# Altium integrated library ST Audio Processor.IntLib: 35 symbols
Pins are listed as number, name and electrical type; pins without a type are passive.

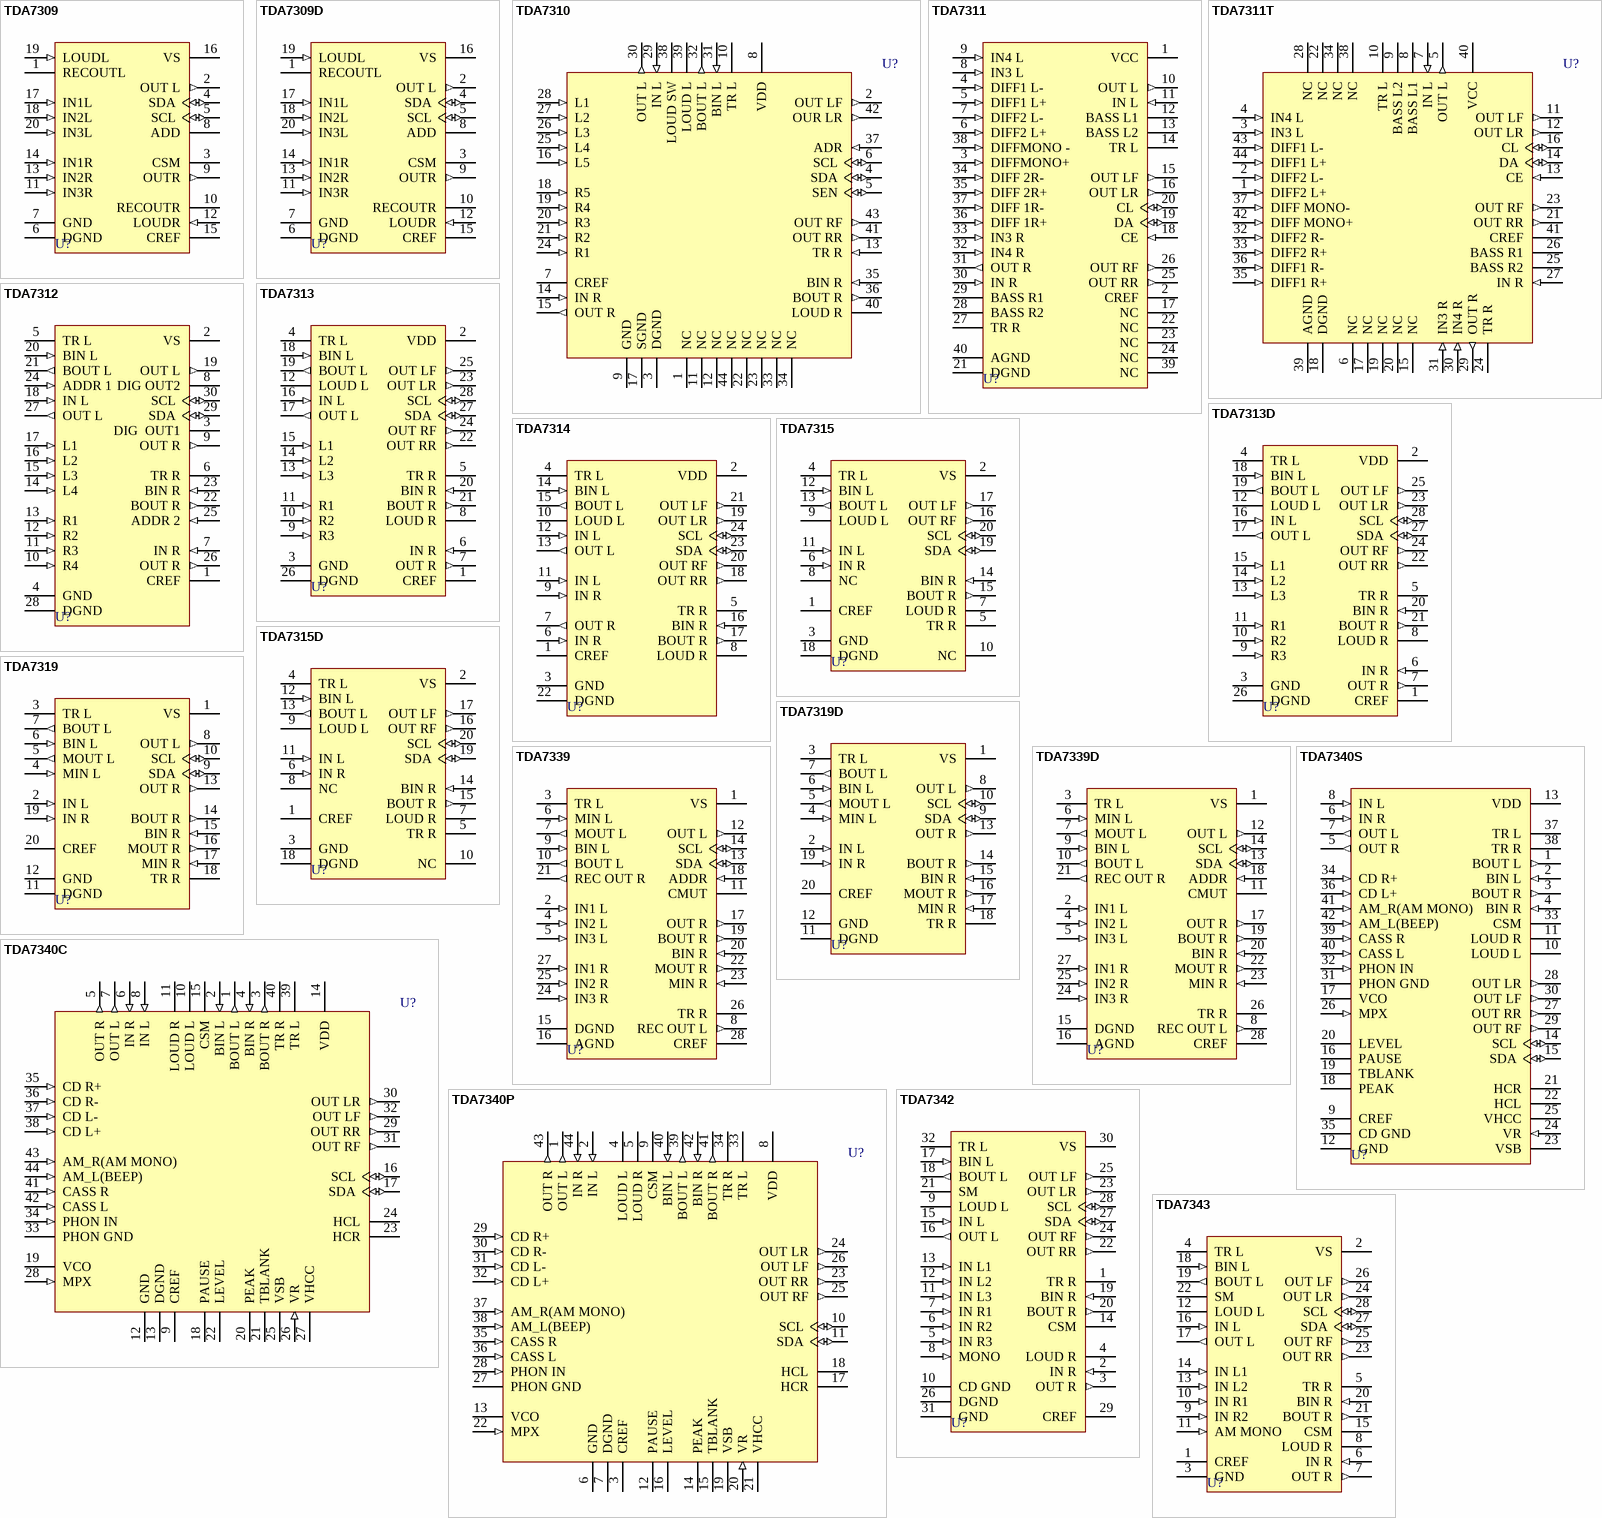
[diagram p0: symbols TDA7309 to TDA7343]

## TDA7309
designator U?
Digital-Controlled Stereo Audio Processor with Loudness; Published: 24-Aug-2001; LatestRevisionDate: 17-Jul-2002; LatestRevisionNote: Re-released for DXP Platform.; DatasheetDocument: Sep-1997; PackageDocument: Jun-1998; PackageReference: DIP20; Publisher: Altium Limited; Code_JEDEC: MS-015-AE
footprint DIP20 (DIP; 20 Leads; Row Spacing 7.62 mm; Pitch 2.54 mm)
pins: 1 RECOUTL, 2 OUT L (out), 3 CSM, 4 SDA (io), 5 SCL (io), 6 DGND (power), 7 GND (power), 8 ADD, 9 OUTR (out), 10 RECOUTR, 11 IN3R (in), 12 LOUDR (in), 13 IN2R (in), 14 IN1R (in), 15 CREF, 16 VS (power), 17 IN1L (in), 18 IN2L (in), 19 LOUDL (in), 20 IN3L (in)

## TDA7309D
designator U?
Digital-Controlled Stereo Audio Processor with Loudness; Published: 24-Aug-2001; LatestRevisionDate: 17-Jul-2002; LatestRevisionNote: Re-released for DXP Platform.; DatasheetDocument: Sep-1997; PackageDocument: Jul-2001; PackageReference: SO20; Publisher: Altium Limited; Code_JEDEC: MS-013-AC; Code_IPC: SO20W
footprint SO20 (Small Outline, Plastic; 20 Leads; Body Width 7.5 mm; Pitch 1.27 mm)
pins: 1 RECOUTL, 2 OUT L (out), 3 CSM, 4 SDA (io), 5 SCL (io), 6 DGND (power), 7 GND (power), 8 ADD, 9 OUTR (out), 10 RECOUTR, 11 IN3R (in), 12 LOUDR (in), 13 IN2R (in), 14 IN1R (in), 15 CREF, 16 VS (power), 17 IN1L (in), 18 IN2L (in), 19 LOUDL (in), 20 IN3L (in)

## TDA7310
designator U?
Serial Bus-Controlled Audio Processor; Published: 24-Aug-2001; LatestRevisionDate: 17-Jul-2002; LatestRevisionNote: Re-released for DXP Platform.; DatasheetDocument: Nov-1999; PackageDocument: Nov-1999; PackageReference: PQFP44A; Publisher: Altium Limited; Code_JEDEC: MS-022-AB; Code_IPC: QFP10X10-44
footprint PQFP44A (QFP; 44 Leads; Body 10 x 10 mm; Pitch 0.8 mm)
pins: 1 NC, 2 OUT LF (out), 3 DGND (power), 4 SDA (io), 5 SEN (io), 6 SCL (io), 7 CREF, 8 VDD (power), 9 GND (power), 10 TR L, 11 NC, 12 NC, 13 TR R (in), 14 IN R (in), 15 OUT R (out), 16 L5 (in), 17 SGND (power), 18 R5 (in), 19 R4 (in), 20 R3 (in), 21 R2 (in), 22 NC, 23 NC, 24 R1 (in), 25 L4 (in), 26 L3 (in), 27 L2 (in), 28 L1 (in), 29 IN L (in), 30 OUT L (out), 31 BIN L (in), 32 BOUT L (out), 33 NC, 34 NC, 35 BIN R (in), 36 BOUT R (out), 37 ADR (in), 38 LOUD SW, 39 LOUD L, 40 LOUD R, 41 OUT RR (out), 42 OUR LR (out), 43 OUT RF (out), 44 NC

## TDA7311
designator U?
Serial Bus-Controlled Audio Processor; Published: 24-Aug-2001; LatestRevisionDate: 17-Jul-2002; LatestRevisionNote: Re-released for DXP Platform.; DatasheetDocument: Jul-1999; PackageDocument: Jul-1999; PackageReference: PDIP40B; Publisher: Altium Limited
footprint PDIP40B (DIP; 40 Leads; Row Spacing 15.24 mm; Pitch 2.54 mm)
pins: 1 VCC (power), 2 CREF, 3 DIFFMONO+ (in), 4 DIFF1 L- (in), 5 DIFF1 L+ (in), 6 DIFF2 L+ (in), 7 DIFF2 L- (in), 8 IN3 L (in), 9 IN4 L (in), 10 OUT L (out), 11 IN L (in), 12 BASS L1, 13 BASS L2, 14 TR L, 15 OUT LF (out), 16 OUT LR (out), 17 NC, 18 CE (in), 19 DA (io), 20 CL (io), 21 DGND (power), 22 NC, 23 NC, 24 NC, 25 OUT RR (out), 26 OUT RF (out), 27 TR R, 28 BASS R2, 29 BASS R1, 30 IN R (in), 31 OUT R (out), 32 IN4 R (in), 33 IN3 R (in), 34 DIFF 2R- (in), 35 DIFF 2R+ (in), 36 DIFF 1R+ (in), 37 DIFF 1R- (in), 38 DIFFMONO - (in), 39 NC, 40 AGND (power)

## TDA7311T
designator U?
Serial Bus-Controlled Audio Processor; Published: 24-Aug-2001; LatestRevisionDate: 17-Jul-2002; LatestRevisionNote: Re-released for DXP Platform.; DatasheetDocument: Apr-1997; PackageDocument: Oct-1997; PackageReference: TQFP44-10X10; Publisher: Altium Limited
footprint TQFP44-10X10 (QFP; 44 Leads; Body 10 x 10 mm; Pitch 0.8 mm)
pins: 1 DIFF2 L+ (in), 2 DIFF2 L- (in), 3 IN3 L (in), 4 IN4 L (in), 5 OUT L (out), 6 NC, 7 IN L (in), 8 BASS L1, 9 BASS L2, 10 TR L, 11 OUT LF (out), 12 OUT LR (out), 13 CE (in), 14 DA (io), 15 NC, 16 CL (io), 17 NC, 18 DGND (power), 19 NC, 20 NC, 21 OUT RR (out), 22 NC, 23 OUT RF (out), 24 TR R, 25 BASS R2, 26 BASS R1, 27 IN R (in), 28 NC, 29 OUT R (out), 30 IN4 R (in), 31 IN3 R (in), 32 DIFF2 R- (in), 33 DIFF2 R+ (in), 34 NC, 35 DIFF1 R+ (in), 36 DIFF1 R- (in), 37 DIFF MONO- (in), 38 NC, 39 AGND (power), 40 VCC (power), 41 CREF, 42 DIFF MONO+ (in), 43 DIFF1 L- (in), 44 DIFF1 L+ (in)

## TDA7312
designator U?
Digital-Controlled Stereo Audio Processor; Published: 24-Aug-2001; LatestRevisionDate: 17-Jul-2002; LatestRevisionNote: Re-released for DXP Platform.; DatasheetDocument: Nov-1999; PackageDocument: Nov-1999; PackageReference: SDIP30; Publisher: Altium Limited
footprint SDIP30 (DIP; 30 Leads; Row Spacing 10.16 mm; Pitch 1.778 mm)
pins: 1 CREF, 2 VS (power), 3 DIG  OUT1 (hiz), 4 GND (power), 5 TR L, 6 TR R, 7 IN R (in), 8 DIG OUT2 (hiz), 9 OUT R (out), 10 R4 (in), 11 R3 (in), 12 R2 (in), 13 R1 (in), 14 L4 (in), 15 L3 (in), 16 L2 (in), 17 L1 (in), 18 IN L (in), 19 OUT L (out), 20 BIN L (in), 21 BOUT L (out), 22 BOUT R (out), 23 BIN R (in), 24 ADDR 1 (in), 25 ADDR 2 (in), 26 OUT R (out), 27 OUT L (out), 28 DGND (power), 29 SDA (io), 30 SCL (io)

## TDA7313
designator U?
Digital-Controlled Stereo Audio Processor with Loudness; Published: 24-Aug-2001; LatestRevisionDate: 17-Jul-2002; LatestRevisionNote: Re-released for DXP Platform.; DatasheetDocument: Nov-1999; PackageDocument: Jan-2003; PackageReference: PDIP28; Publisher: Altium Limited
footprint PDIP28 (DIP; 28 Leads; Row Spacing 15.24 mm; Pitch 2.54 mm)
pins: 1 CREF, 2 VDD (power), 3 GND (power), 4 TR L, 5 TR R, 6 IN R (in), 7 OUT R (out), 8 LOUD R, 9 R3 (in), 10 R2 (in), 11 R1 (in), 12 LOUD L, 13 L3 (in), 14 L2 (in), 15 L1 (in), 16 IN L (in), 17 OUT L (out), 18 BIN L (in), 19 BOUT L (out), 20 BIN R (in), 21 BOUT R (out), 22 OUT RR (out), 23 OUT LR (out), 24 OUT RF (out), 25 OUT LF (out), 26 DGND (power), 27 SDA (io), 28 SCL (io)

## TDA7313D
designator U?
Digital-Controlled Stereo Audio Processor with Loudness; Published: 24-Aug-2001; LatestRevisionDate: 17-Jul-2002; LatestRevisionNote: Re-released for DXP Platform.; DatasheetDocument: Nov-1999; PackageDocument: Jul-2001; PackageReference: SO28; Publisher: Altium Limited; Code_IPC: SO28W
footprint SO28 (Small Outline, Plastic; 28 Leads; Body Width 7.5 mm; Pitch 1.27 mm)
pins: 1 CREF, 2 VDD (power), 3 GND (power), 4 TR L, 5 TR R, 6 IN R (in), 7 OUT R (out), 8 LOUD R, 9 R3 (in), 10 R2 (in), 11 R1 (in), 12 LOUD L, 13 L3 (in), 14 L2 (in), 15 L1 (in), 16 IN L (in), 17 OUT L (out), 18 BIN L (in), 19 BOUT L (out), 20 BIN R (in), 21 BOUT R (out), 22 OUT RR (out), 23 OUT LR (out), 24 OUT RF (out), 25 OUT LF (out), 26 DGND (power), 27 SDA (io), 28 SCL (io)

## TDA7314
designator U?
Digital-Controlled Audio Processor with Loudness; Published: 24-Aug-2001; LatestRevisionDate: 17-Jul-2002; LatestRevisionNote: Re-released for DXP Platform.; DatasheetDocument: Nov-1999; PackageDocument: Nov-1999; PackageReference: PSDIP24; Publisher: Altium Limited
footprint PSDIP24 (DIP; 24 Leads; Row Spacing 7.62 mm; Pitch 1.778 mm)
pins: 1 CREF, 2 VDD (power), 3 GND (power), 4 TR L, 5 TR R, 6 IN R (in), 7 OUT R (out), 8 LOUD R, 9 IN R (in), 10 LOUD L, 11 IN L (in), 12 IN L (in), 13 OUT L (out), 14 BIN L (in), 15 BOUT L (out), 16 BIN R (in), 17 BOUT R (out), 18 OUT RR (out), 19 OUT LR (out), 20 OUT RF (out), 21 OUT LF (out), 22 DGND (power), 23 SDA (io), 24 SCL (io)

## TDA7315
designator U?
Digital-Controlled Audio Processor; Published: 24-Aug-2001; LatestRevisionDate: 17-Jul-2002; LatestRevisionNote: Re-released for DXP Platform.; DatasheetDocument: Jul-1998; PackageDocument: Jun-1998; PackageReference: DIP20; Publisher: Altium Limited; Code_JEDEC: MS-015-AE
footprint DIP20 (DIP; 20 Leads; Row Spacing 7.62 mm; Pitch 2.54 mm)
pins: 1 CREF, 2 VS (power), 3 GND (power), 4 TR L, 5 TR R, 6 IN R (in), 7 LOUD R, 8 NC, 9 LOUD L, 10 NC, 11 IN L (in), 12 BIN L (in), 13 BOUT L (out), 14 BIN R (in), 15 BOUT R (out), 16 OUT RF (out), 17 OUT LF (out), 18 DGND (power), 19 SDA (io), 20 SCL (io)

## TDA7315D
designator U?
Digital-Controlled Audio Processor; Published: 24-Aug-2001; LatestRevisionDate: 17-Jul-2002; LatestRevisionNote: Re-released for DXP Platform.; DatasheetDocument: Jul-1998; PackageDocument: Jul-2001; PackageReference: SO20; Publisher: Altium Limited; Code_JEDEC: MS-013-AC; Code_IPC: SO20W
footprint SO20 (Small Outline, Plastic; 20 Leads; Body Width 7.5 mm; Pitch 1.27 mm)
pins: 1 CREF, 2 VS (power), 3 GND (power), 4 TR L, 5 TR R, 6 IN R (in), 7 LOUD R, 8 NC, 9 LOUD L, 10 NC, 11 IN L (in), 12 BIN L (in), 13 BOUT L (out), 14 BIN R (in), 15 BOUT R (out), 16 OUT RF (out), 17 OUT LF (out), 18 DGND (power), 19 SDA (io), 20 SCL (io)

## TDA7319
designator U?
3-Bands Digital-Controlled Audio Processor; Published: 24-Aug-2001; LatestRevisionDate: 17-Jul-2002; LatestRevisionNote: Re-released for DXP Platform.; DatasheetDocument: May-1995; PackageDocument: Jun-1998; PackageReference: DIP20; Publisher: Altium Limited; Code_JEDEC: MS-015-AE
footprint DIP20 (DIP; 20 Leads; Row Spacing 7.62 mm; Pitch 2.54 mm)
pins: 1 VS (power), 2 IN L (in), 3 TR L, 4 MIN L (in), 5 MOUT L (out), 6 BIN L (in), 7 BOUT L (out), 8 OUT L (out), 9 SDA (io), 10 SCL (io), 11 DGND (power), 12 GND (power), 13 OUT R (out), 14 BOUT R (out), 15 BIN R (in), 16 MOUT R (out), 17 MIN R (in), 18 TR R, 19 IN R (in), 20 CREF

## TDA7319D
designator U?
3-Bands Digital-Controlled Audio Processor; Published: 24-Aug-2001; LatestRevisionDate: 17-Jul-2002; LatestRevisionNote: Re-released for DXP Platform.; DatasheetDocument: May-1995; PackageDocument: Jul-2001; PackageReference: SO20; Publisher: Altium Limited; Code_JEDEC: MS-013-AC; Code_IPC: SO20W
footprint SO20 (Small Outline, Plastic; 20 Leads; Body Width 7.5 mm; Pitch 1.27 mm)
pins: 1 VS (power), 2 IN L (in), 3 TR L, 4 MIN L (in), 5 MOUT L (out), 6 BIN L (in), 7 BOUT L (out), 8 OUT L (out), 9 SDA (io), 10 SCL (io), 11 DGND (power), 12 GND (power), 13 OUT R (out), 14 BOUT R (out), 15 BIN R (in), 16 MOUT R (out), 17 MIN R (in), 18 TR R, 19 IN R (in), 20 CREF

## TDA7339
designator U?
3-Bands Digital-Controlled Audio Processor; Published: 24-Aug-2001; LatestRevisionDate: 17-Jul-2002; LatestRevisionNote: Re-released for DXP Platform.; DatasheetDocument: Jul-1999; PackageDocument: Jan-2003; PackageReference: PDIP28; Publisher: Altium Limited
footprint PDIP28 (DIP; 28 Leads; Row Spacing 15.24 mm; Pitch 2.54 mm)
pins: 1 VS (power), 2 IN1 L (in), 3 TR L, 4 IN2 L (in), 5 IN3 L (in), 6 MIN L (in), 7 MOUT L (out), 8 REC OUT L (out), 9 BIN L (in), 10 BOUT L (out), 11 CMUT, 12 OUT L (out), 13 SDA (io), 14 SCL (io), 15 DGND (power), 16 AGND (power), 17 OUT R (out), 18 ADDR (in), 19 BOUT R (out), 20 BIN R (in), 21 REC OUT R (out), 22 MOUT R (out), 23 MIN R (in), 24 IN3 R (in), 25 IN2 R (in), 26 TR R, 27 IN1 R (in), 28 CREF

## TDA7339D
designator U?
3-Bands Digital-Controlled Audio Processor; Published: 24-Aug-2001; LatestRevisionDate: 17-Jul-2002; LatestRevisionNote: Re-released for DXP Platform.; DatasheetDocument: Jan-1995; PackageDocument: Jul-2001; PackageReference: SO28; Publisher: Altium Limited; Code_IPC: SO28W
footprint SO28 (Small Outline, Plastic; 28 Leads; Body Width 7.5 mm; Pitch 1.27 mm)
pins: 1 VS (power), 2 IN1 L (in), 3 TR L, 4 IN2 L (in), 5 IN3 L (in), 6 MIN L (in), 7 MOUT L (out), 8 REC OUT L (out), 9 BIN L (in), 10 BOUT L (out), 11 CMUT, 12 OUT L (out), 13 SDA (io), 14 SCL (io), 15 DGND (power), 16 AGND (power), 17 OUT R (out), 18 ADDR (in), 19 BOUT R (out), 20 BIN R (in), 21 REC OUT R (out), 22 MOUT R (out), 23 MIN R (in), 24 IN3 R (in), 25 IN2 R (in), 26 TR R, 27 IN1 R (in), 28 CREF

## TDA7340C
designator U?
Audio Signal Processor; Published: 24-Aug-2001; LatestRevisionDate: 17-Jul-2002; LatestRevisionNote: Re-released for DXP Platform.; DatasheetDocument: Feb-1997; PackageDocument: Feb-1997; PackageReference: PLCC44A; Publisher: Altium Limited; Code_IPC: PLCC-44
footprint PLCC44A (Leaded Chip Carrier; 44 Leads; Body 16.5 x 16.5 mm)
pins: 1 BOUT L (out), 2 BIN L (in), 3 BOUT R (out), 4 BIN R (in), 5 OUT R (out), 6 IN R (in), 7 OUT L (out), 8 IN L (in), 9 CREF, 10 LOUD L, 11 LOUD R, 12 GND (power), 13 DGND (power), 14 VDD (power), 15 CSM, 16 SCL (io), 17 SDA (io), 18 PAUSE, 19 VCO, 20 PEAK, 21 TBLANK, 22 LEVEL, 23 HCR, 24 HCL, 25 VSB, 26 VR (in), 27 VHCC (power), 28 MPX (in), 29 OUT RR (out), 30 OUT LR (out), 31 OUT RF (out), 32 OUT LF (out), 33 PHON GND (power), 34 PHON IN (in), 35 CD R+ (in), 36 CD R- (in), 37 CD L- (in), 38 CD L+ (in), 39 TR L, 40 TR R, 41 CASS R (in), 42 CASS L (in), 43 AM_R(AM MONO) (in), 44 AM_L(BEEP) (in)

## TDA7340P
designator U?
Audio Signal Processor; Published: 24-Aug-2001; LatestRevisionDate: 17-Jul-2002; LatestRevisionNote: Re-released for DXP Platform.; DatasheetDocument: Sep-1999; PackageDocument: Nov-1999; PackageReference: PQFP44A; Publisher: Altium Limited; Code_JEDEC: MS-022-AB; Code_IPC: QFP10X10-44
footprint PQFP44A (QFP; 44 Leads; Body 10 x 10 mm; Pitch 0.8 mm)
pins: 1 OUT L (out), 2 IN L (in), 3 CREF, 4 LOUD L, 5 LOUD R, 6 GND (power), 7 DGND (power), 8 VDD (power), 9 CSM, 10 SCL (io), 11 SDA (io), 12 PAUSE, 13 VCO, 14 PEAK, 15 TBLANK, 16 LEVEL, 17 HCR, 18 HCL, 19 VSB, 20 VR (in), 21 VHCC (power), 22 MPX (in), 23 OUT RR (out), 24 OUT LR (out), 25 OUT RF (out), 26 OUT LF (out), 27 PHON GND (power), 28 PHON IN (in), 29 CD R+ (in), 30 CD R- (in), 31 CD L- (in), 32 CD L+ (in), 33 TR L, 34 TR R, 35 CASS R (in), 36 CASS L (in), 37 AM_R(AM MONO) (in), 38 AM_L(BEEP) (in), 39 BOUT L (out), 40 BIN L (in), 41 BOUT R (out), 42 BIN R (in), 43 OUT R (out), 44 IN R (in)

## TDA7340S
designator U?
Audio Signal Processor; Published: 24-Aug-2001; LatestRevisionDate: 17-Jul-2002; LatestRevisionNote: Re-released for DXP Platform.; DatasheetDocument: Feb-1997; PackageDocument: Oct-2003; PackageReference: PSDIP42; Publisher: Altium Limited
footprint PSDIP42 (DIP, Plastic Shrink; 42 Leads; Row Spacing 15.24 mm; Pitch 1.78 mm)
pins: 1 BOUT L (out), 2 BIN L (in), 3 BOUT R (out), 4 BIN R (in), 5 OUT R (out), 6 IN R (in), 7 OUT L (out), 8 IN L (in), 9 CREF, 10 LOUD L, 11 LOUD R, 12 GND (power), 13 VDD (power), 14 SCL (io), 15 SDA (io), 16 PAUSE, 17 VCO, 18 PEAK, 19 TBLANK, 20 LEVEL, 21 HCR, 22 HCL, 23 VSB, 24 VR (in), 25 VHCC (power), 26 MPX (in), 27 OUT RR (out), 28 OUT LR (out), 29 OUT RF (out), 30 OUT LF (out), 31 PHON GND (power), 32 PHON IN (in), 33 CSM, 34 CD R+ (in), 35 CD GND (power), 36 CD L+ (in), 37 TR L, 38 TR R, 39 CASS R (in), 40 CASS L (in), 41 AM_R(AM MONO) (in), 42 AM_L(BEEP) (in)

## TDA7342
designator U?
Digital-Controlled Audio Processor; Published: 24-Aug-2001; LatestRevisionDate: 17-Jul-2002; LatestRevisionNote: Re-released for DXP Platform.; DatasheetDocument: Nov-1999; PackageDocument: Oct-1997; PackageReference: TQFP32; Publisher: Altium Limited
footprint TQFP32 (QFP; 32 Leads; Body 7 x 7 mm; Pitch 0.8 mm)
pins: 1 TR R, 2 IN R (in), 3 OUT R (out), 4 LOUD R, 5 IN R3 (in), 6 IN R2 (in), 7 IN R1 (in), 8 MONO (in), 9 LOUD L, 10 CD GND (power), 11 IN L3 (in), 12 IN L2 (in), 13 IN L1 (in), 14 CSM, 15 IN L (in), 16 OUT L (out), 17 BIN L (in), 18 BOUT L (out), 19 BIN R (in), 20 BOUT R (out), 21 SM, 22 OUT RR (out), 23 OUT LR (out), 24 OUT RF (out), 25 OUT LF (out), 26 DGND (power), 27 SDA (io), 28 SCL (io), 29 CREF, 30 VS (power), 31 GND (power), 32 TR L

## TDA7343
designator U?
Digital-Controlled Audio Processor; Published: 24-Aug-2001; LatestRevisionDate: 17-Jul-2002; LatestRevisionNote: Re-released for DXP Platform.; DatasheetDocument: Nov-1999; PackageDocument: Jan-2003; PackageReference: PDIP28; Publisher: Altium Limited
footprint PDIP28 (DIP; 28 Leads; Row Spacing 15.24 mm; Pitch 2.54 mm)
pins: 1 CREF, 2 VS (power), 3 GND (power), 4 TR L, 5 TR R, 6 IN R (in), 7 OUT R (out), 8 LOUD R, 9 IN R2 (in), 10 IN R1 (in), 11 AM MONO (in), 12 LOUD L, 13 IN L2 (in), 14 IN L1 (in), 15 CSM, 16 IN L (in), 17 OUT L (out), 18 BIN L (in), 19 BOUT L (out), 20 BIN R (in), 21 BOUT R (out), 22 SM, 23 OUT RR (out), 24 OUT LR (out), 25 OUT RF (out), 26 OUT LF (out), 27 SDA (io), 28 SCL (io)

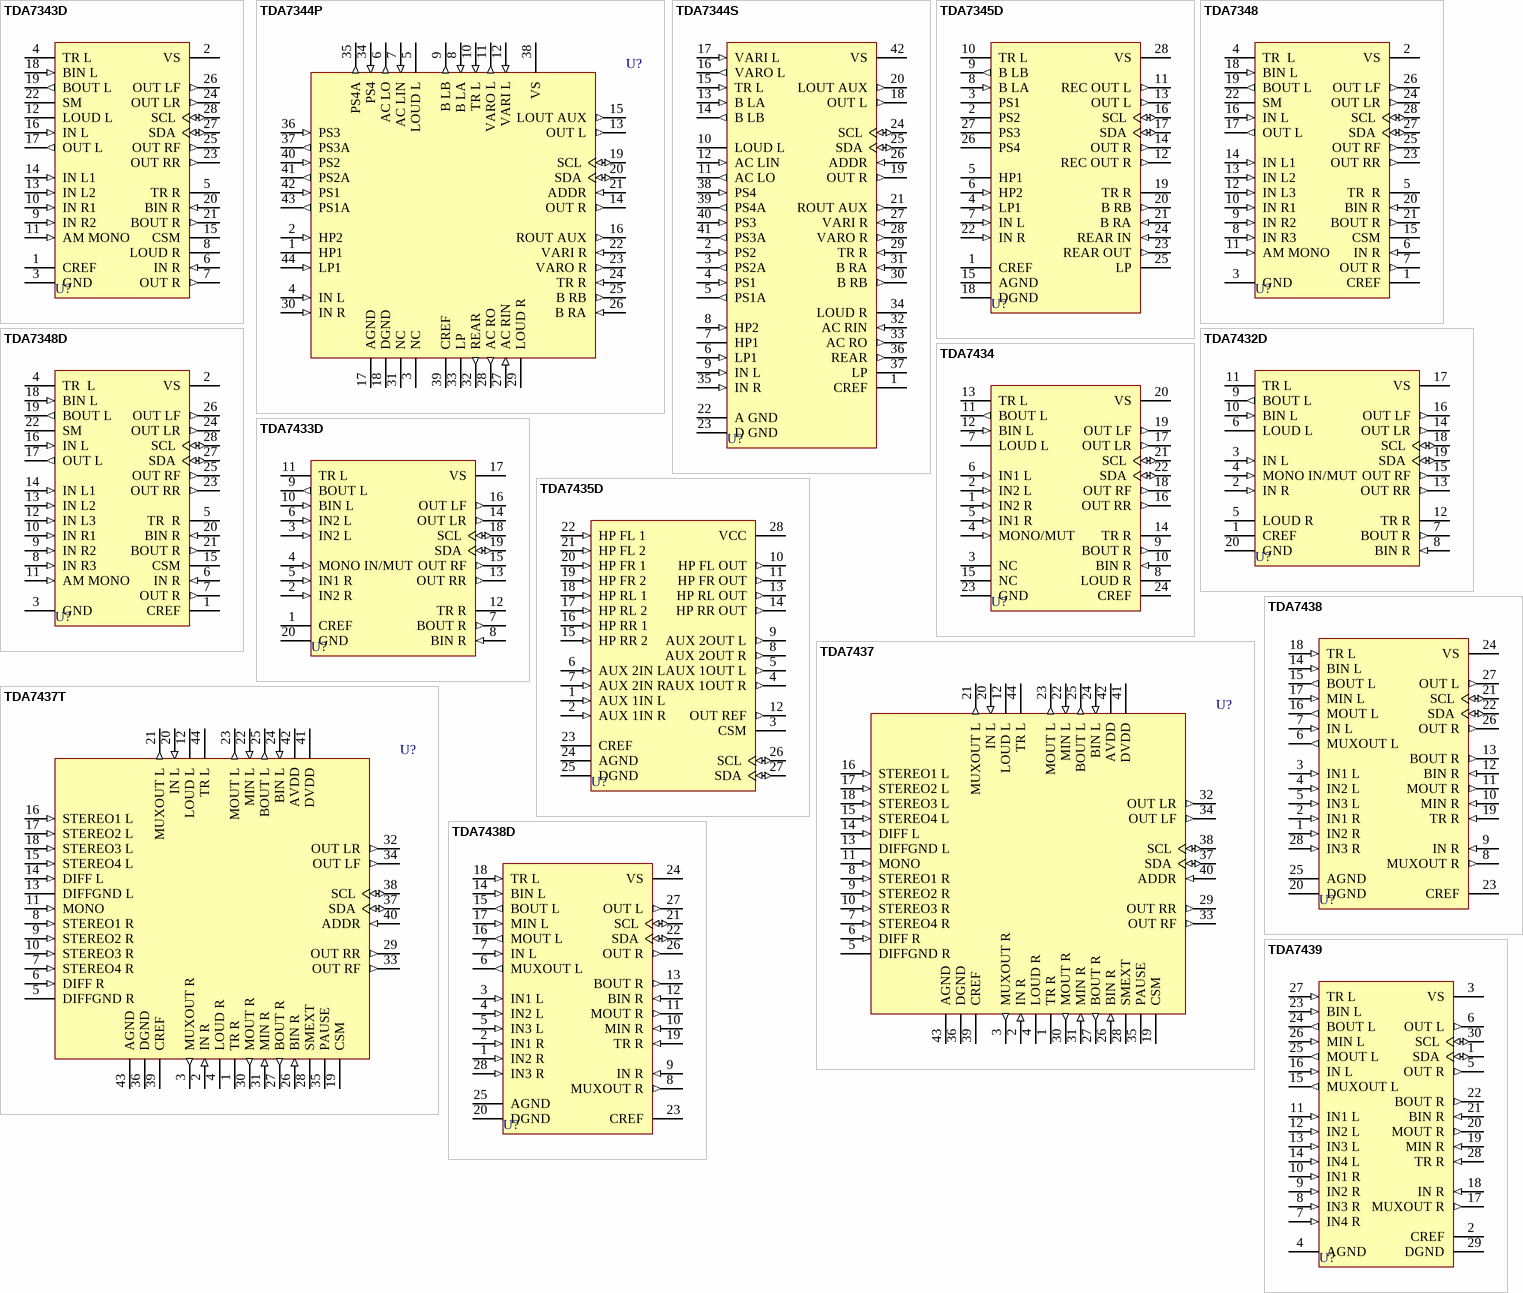
[diagram p1: symbols TDA7343D to TDA7439]

## TDA7343D
designator U?
Digital-Controlled Audio Processor; Published: 24-Aug-2001; LatestRevisionDate: 17-Jul-2002; LatestRevisionNote: Re-released for DXP Platform.; DatasheetDocument: Nov-1999; PackageDocument: Jul-2001; PackageReference: SO28; Publisher: Altium Limited; Code_IPC: SO28W
footprint SO28 (Small Outline, Plastic; 28 Leads; Body Width 7.5 mm; Pitch 1.27 mm)
pins: 1 CREF, 2 VS (power), 3 GND (power), 4 TR L, 5 TR R, 6 IN R (in), 7 OUT R (out), 8 LOUD R, 9 IN R2 (in), 10 IN R1 (in), 11 AM MONO (in), 12 LOUD L, 13 IN L2 (in), 14 IN L1 (in), 15 CSM, 16 IN L (in), 17 OUT L (out), 18 BIN L (in), 19 BOUT L (out), 20 BIN R (in), 21 BOUT R (out), 22 SM, 23 OUT RR (out), 24 OUT LR (out), 25 OUT RF (out), 26 OUT LF (out), 27 SDA (io), 28 SCL (io)

## TDA7344P
designator U?
Digital-Controlled Audio Processor with Surround Sound Matrix; Published: 24-Aug-2001; LatestRevisionDate: 17-Jul-2002; LatestRevisionNote: Re-released for DXP Platform.; DatasheetDocument: Feb-1997; PackageDocument: Nov-1999; PackageReference: PQFP44A; Publisher: Altium Limited; Code_JEDEC: MS-022-AB; Code_IPC: QFP10X10-44
footprint PQFP44A (QFP; 44 Leads; Body 10 x 10 mm; Pitch 0.8 mm)
pins: 1 HP1, 2 HP2 (in), 3 NC, 4 IN L (in), 5 LOUD L, 6 AC LO (out), 7 AC LIN (in), 8 B LA (in), 9 B LB (out), 10 TR L (in), 11 VARO L (out), 12 VARI L (in), 13 OUT L (out), 14 OUT R (out), 15 LOUT AUX (out), 16 ROUT AUX (out), 17 AGND (power), 18 DGND (power), 19 SCL (io), 20 SDA (io), 21 ADDR (in), 22 VARI R (in), 23 VARO R (out), 24 TR R (in), 25 B RB (out), 26 B RA (in), 27 AC RIN (in), 28 AC RO (out), 29 LOUD R, 30 IN R (in), 31 NC, 32 REAR (out), 33 LP, 34 PS4 (in), 35 PS4A (out), 36 PS3 (in), 37 PS3A (out), 38 VS (power), 39 CREF, 40 PS2 (in), 41 PS2A (out), 42 PS1 (in), 43 PS1A (out), 44 LP1 (in)

## TDA7344S
designator U?
Digital-Controlled Audio Processor with Surround Sound Matrix; Published: 24-Aug-2001; LatestRevisionDate: 17-Jul-2002; LatestRevisionNote: Re-released for DXP Platform.; DatasheetDocument: Feb-1997; PackageDocument: Oct-2003; PackageReference: PSDIP42; Publisher: Altium Limited
footprint PSDIP42 (DIP, Plastic Shrink; 42 Leads; Row Spacing 15.24 mm; Pitch 1.78 mm)
pins: 1 CREF, 2 PS2 (in), 3 PS2A (out), 4 PS1 (in), 5 PS1A (out), 6 LP1 (in), 7 HP1, 8 HP2 (in), 9 IN L (in), 10 LOUD L, 11 AC LO (out), 12 AC LIN (in), 13 B LA (in), 14 B LB (out), 15 TR L (in), 16 VARO L (out), 17 VARI L (in), 18 OUT L (out), 19 OUT R (out), 20 LOUT AUX (out), 21 ROUT AUX (out), 22 A GND (power), 23 D GND (power), 24 SCL (io), 25 SDA (io), 26 ADDR (in), 27 VARI R (in), 28 VARO R (out), 29 TR R (in), 30 B RB (out), 31 B RA (in), 32 AC RIN (in), 33 AC RO (out), 34 LOUD R, 35 IN R (in), 36 REAR (out), 37 LP, 38 PS4 (in), 39 PS4A (out), 40 PS3 (in), 41 PS3A (out), 42 VS (power)

## TDA7345D
designator U?
Digital-Controlled Audio Processor with Surround Sound Matrix; Published: 24-Aug-2001; LatestRevisionDate: 17-Jul-2002; LatestRevisionNote: Re-released for DXP Platform.; DatasheetDocument: Nov-1999; PackageDocument: Jul-2001; PackageReference: SO28; Publisher: Altium Limited; Code_IPC: SO28W
footprint SO28 (Small Outline, Plastic; 28 Leads; Body Width 7.5 mm; Pitch 1.27 mm)
pins: 1 CREF, 2 PS2, 3 PS1, 4 LP1 (in), 5 HP1, 6 HP2 (in), 7 IN L (in), 8 B LA (in), 9 B LB (out), 10 TR L, 11 REC OUT L (out), 12 REC OUT R (out), 13 OUT L (out), 14 OUT R (out), 15 AGND (power), 16 SCL (io), 17 SDA (io), 18 DGND (power), 19 TR R, 20 B RB (out), 21 B RA (in), 22 IN R (in), 23 REAR OUT (out), 24 REAR IN (in), 25 LP, 26 PS4, 27 PS3, 28 VS (power)

## TDA7348
designator U?
Digital-Controlled Audio Processor; Published: 24-Aug-2001; LatestRevisionDate: 17-Jul-2002; LatestRevisionNote: Re-released for DXP Platform.; DatasheetDocument: Nov-1994; PackageDocument: Jan-2003; PackageReference: PDIP28; Publisher: Altium Limited
footprint PDIP28 (DIP; 28 Leads; Row Spacing 15.24 mm; Pitch 2.54 mm)
pins: 1 CREF, 2 VS (power), 3 GND (power), 4 TR  L, 5 TR  R, 6 IN R (in), 7 OUT R (out), 8 IN R3 (in), 9 IN R2 (in), 10 IN R1 (in), 11 AM MONO (in), 12 IN L3 (in), 13 IN L2 (in), 14 IN L1 (in), 15 CSM, 16 IN L (in), 17 OUT L (out), 18 BIN L (in), 19 BOUT L (out), 20 BIN R (in), 21 BOUT R (out), 22 SM, 23 OUT RR (out), 24 OUT LR (out), 25 OUT RF (out), 26 OUT LF (out), 27 SDA (io), 28 SCL (io)

## TDA7348D
designator U?
Digital-Controlled Audio Processor; Published: 24-Aug-2001; LatestRevisionDate: 17-Jul-2002; LatestRevisionNote: Re-released for DXP Platform.; DatasheetDocument: Nov-1994; PackageDocument: Jul-2001; PackageReference: SO28; Publisher: Altium Limited; Code_IPC: SO28W
footprint SO28 (Small Outline, Plastic; 28 Leads; Body Width 7.5 mm; Pitch 1.27 mm)
pins: 1 CREF, 2 VS (power), 3 GND (power), 4 TR  L, 5 TR  R, 6 IN R (in), 7 OUT R (out), 8 IN R3 (in), 9 IN R2 (in), 10 IN R1 (in), 11 AM MONO (in), 12 IN L3 (in), 13 IN L2 (in), 14 IN L1 (in), 15 CSM, 16 IN L (in), 17 OUT L (out), 18 BIN L (in), 19 BOUT L (out), 20 BIN R (in), 21 BOUT R (out), 22 SM, 23 OUT RR (out), 24 OUT LR (out), 25 OUT RF (out), 26 OUT LF (out), 27 SDA (io), 28 SCL (io)

## TDA7432D
designator U?
Basic Function Audio Processor; Published: 24-Aug-2001; LatestRevisionDate: 17-Jul-2002; LatestRevisionNote: Re-released for DXP Platform.; DatasheetDocument: Aug-1996; PackageDocument: Jul-2001; PackageReference: SO20; Publisher: Altium Limited; Code_JEDEC: MS-013-AC; Code_IPC: SO20W
footprint SO20 (Small Outline, Plastic; 20 Leads; Body Width 7.5 mm; Pitch 1.27 mm)
pins: 1 CREF, 2 IN R (in), 3 IN L (in), 4 MONO IN/MUT (in), 5 LOUD R, 6 LOUD L, 7 BOUT R (out), 8 BIN R (in), 9 BOUT L (out), 10 BIN L (in), 11 TR L, 12 TR R, 13 OUT RR (out), 14 OUT LR (out), 15 OUT RF (out), 16 OUT LF (out), 17 VS (power), 18 SCL (io), 19 SDA (io), 20 GND (power)

## TDA7433D
designator U?
Basic Function Audio Processor; Published: 24-Aug-2001; LatestRevisionDate: 17-Jul-2002; LatestRevisionNote: Re-released for DXP Platform.; DatasheetDocument: Nov-1999; PackageDocument: Jul-2001; PackageReference: SO20; Publisher: Altium Limited; Code_JEDEC: MS-013-AC; Code_IPC: SO20W
footprint SO20 (Small Outline, Plastic; 20 Leads; Body Width 7.5 mm; Pitch 1.27 mm)
pins: 1 CREF, 2 IN2 R (in), 3 IN2 L (in), 4 MONO IN/MUT (in), 5 IN1 R (in), 6 IN2 L (in), 7 BOUT R (out), 8 BIN R (in), 9 BOUT L (out), 10 BIN L (in), 11 TR L, 12 TR R, 13 OUT RR (out), 14 OUT LR (out), 15 OUT RF (out), 16 OUT LF (out), 17 VS (power), 18 SCL (io), 19 SDA (io), 20 GND (power)

## TDA7434
designator U?
Basic Function Audio Processor; Published: 24-Aug-2001; LatestRevisionDate: 17-Jul-2002; LatestRevisionNote: Re-released for DXP Platform.; DatasheetDocument: Aug-1996; PackageDocument: Nov-1999; PackageReference: PSDIP24; Publisher: Altium Limited
footprint PSDIP24 (DIP; 24 Leads; Row Spacing 7.62 mm; Pitch 1.778 mm)
pins: 1 IN2 R (in), 2 IN2 L (in), 3 NC, 4 MONO/MUT (in), 5 IN1 R (in), 6 IN1 L (in), 7 LOUD L, 8 LOUD R, 9 BOUT R (out), 10 BIN R (in), 11 BOUT L (out), 12 BIN L (in), 13 TR L, 14 TR R, 15 NC, 16 OUT RR (out), 17 OUT LR (out), 18 OUT RF (out), 19 OUT LF (out), 20 VS (power), 21 SCL (io), 22 SDA (io), 23 GND (power), 24 CREF

## TDA7435D
designator U?
Digital-Controlled Audio Processor with Loudspeakers Equalizer; Published: 24-Aug-2001; LatestRevisionDate: 17-Jul-2002; LatestRevisionNote: Re-released for DXP Platform.; DatasheetDocument: Nov-1996; PackageDocument: Jul-2001; PackageReference: SO28; Publisher: Altium Limited; Code_IPC: SO28W
footprint SO28 (Small Outline, Plastic; 28 Leads; Body Width 7.5 mm; Pitch 1.27 mm)
pins: 1 AUX 1IN L (in), 2 AUX 1IN R (in), 3 CSM, 4 AUX 1OUT R (out), 5 AUX 1OUT L (out), 6 AUX 2IN L (in), 7 AUX 2IN R (in), 8 AUX 2OUT R (out), 9 AUX 2OUT L (out), 10 HP FL OUT (out), 11 HP FR OUT (out), 12 OUT REF (out), 13 HP RL OUT (out), 14 HP RR OUT (out), 15 HP RR 2 (in), 16 HP RR 1 (in), 17 HP RL 2 (in), 18 HP RL 1 (in), 19 HP FR 2 (in), 20 HP FR 1 (in), 21 HP FL 2 (in), 22 HP FL 1 (in), 23 CREF, 24 AGND (power), 25 DGND (power), 26 SCL (io), 27 SDA (io), 28 VCC (power)

## TDA7437
designator U?
Digital-Controlled Audio Processor; Published: 24-Aug-2001; LatestRevisionDate: 17-Jul-2002; LatestRevisionNote: Re-released for DXP Platform.; DatasheetDocument: Jul-1998; PackageDocument: Nov-1999; PackageReference: PQFP44A; Publisher: Altium Limited; Code_JEDEC: MS-022-AB; Code_IPC: QFP10X10-44
footprint PQFP44A (QFP; 44 Leads; Body 10 x 10 mm; Pitch 0.8 mm)
pins: 1 TR R, 2 IN R (in), 3 MUXOUT R (out), 4 LOUD R, 5 DIFFGND R (power), 6 DIFF R (in), 7 STEREO4 R (in), 8 STEREO1 R (in), 9 STEREO2 R (in), 10 STEREO3 R (in), 11 MONO (in), 12 LOUD L, 13 DIFFGND L (power), 14 DIFF L (in), 15 STEREO4 L (in), 16 STEREO1 L (in), 17 STEREO2 L (in), 18 STEREO3 L (in), 19 CSM, 20 IN L (in), 21 MUXOUT L (out), 22 MIN L (in), 23 MOUT L (out), 24 BIN L (in), 25 BOUT L (out), 26 BIN R (in), 27 BOUT R (out), 28 SMEXT, 29 OUT RR (out), 30 MOUT R (out), 31 MIN R (in), 32 OUT LR (out), 33 OUT RF (out), 34 OUT LF (out), 35 PAUSE, 36 DGND (power), 37 SDA (io), 38 SCL (io), 39 CREF, 40 ADDR (in), 41 DVDD (power), 42 AVDD (power), 43 AGND (power), 44 TR L

## TDA7437T
designator U?
Digital-Controlled Audio Processor; Published: 24-Aug-2001; LatestRevisionDate: 17-Jul-2002; LatestRevisionNote: Re-released for DXP Platform.; DatasheetDocument: Jul-1998; PackageDocument: Oct-1997; PackageReference: TQFP44-10X10; Publisher: Altium Limited
footprint TQFP44-10X10 (QFP; 44 Leads; Body 10 x 10 mm; Pitch 0.8 mm)
pins: 1 TR R, 2 IN R (in), 3 MUXOUT R (out), 4 LOUD R, 5 DIFFGND R (power), 6 DIFF R (in), 7 STEREO4 R (in), 8 STEREO1 R (in), 9 STEREO2 R (in), 10 STEREO3 R (in), 11 MONO (in), 12 LOUD L, 13 DIFFGND L (power), 14 DIFF L (in), 15 STEREO4 L (in), 16 STEREO1 L (in), 17 STEREO2 L (in), 18 STEREO3 L (in), 19 CSM, 20 IN L (in), 21 MUXOUT L (out), 22 MIN L (in), 23 MOUT L (out), 24 BIN L (in), 25 BOUT L (out), 26 BIN R (in), 27 BOUT R (out), 28 SMEXT, 29 OUT RR (out), 30 MOUT R (out), 31 MIN R (in), 32 OUT LR (out), 33 OUT RF (out), 34 OUT LF (out), 35 PAUSE, 36 DGND (power), 37 SDA (io), 38 SCL (io), 39 CREF, 40 ADDR (in), 41 DVDD (power), 42 AVDD (power), 43 AGND (power), 44 TR L

## TDA7438
designator U?
3-Bands Digital-Controlled Audio Processor; Published: 24-Aug-2001; LatestRevisionDate: 17-Jul-2002; LatestRevisionNote: Re-released for DXP Platform.; DatasheetDocument: Apr-1999; PackageDocument: Jan-2003; PackageReference: PDIP28; Publisher: Altium Limited
footprint PDIP28 (DIP; 28 Leads; Row Spacing 15.24 mm; Pitch 2.54 mm)
pins: 1 IN2 R (in), 2 IN1 R (in), 3 IN1 L (in), 4 IN2 L (in), 5 IN3 L (in), 6 MUXOUT L (out), 7 IN L (in), 8 MUXOUT R (out), 9 IN R (in), 10 MIN R (in), 11 MOUT R (out), 12 BIN R (in), 13 BOUT R (out), 14 BIN L (in), 15 BOUT L (out), 16 MOUT L (out), 17 MIN L (in), 18 TR L (in), 19 TR R (in), 20 DGND (power), 21 SCL (io), 22 SDA (io), 23 CREF, 24 VS (power), 25 AGND (power), 26 OUT R (out), 27 OUT L (out), 28 IN3 R (in)

## TDA7438D
designator U?
3-Bands Digital-Controlled Audio Processor; Published: 24-Aug-2001; LatestRevisionDate: 17-Jul-2002; LatestRevisionNote: Re-released for DXP Platform.; DatasheetDocument: Apr-1999; PackageDocument: Jul-2001; PackageReference: SO28; Publisher: Altium Limited; Code_IPC: SO28W
footprint SO28 (Small Outline, Plastic; 28 Leads; Body Width 7.5 mm; Pitch 1.27 mm)
pins: 1 IN2 R (in), 2 IN1 R (in), 3 IN1 L (in), 4 IN2 L (in), 5 IN3 L (in), 6 MUXOUT L (out), 7 IN L (in), 8 MUXOUT R (out), 9 IN R (in), 10 MIN R (in), 11 MOUT R (out), 12 BIN R (in), 13 BOUT R (out), 14 BIN L (in), 15 BOUT L (out), 16 MOUT L (out), 17 MIN L (in), 18 TR L (in), 19 TR R (in), 20 DGND (power), 21 SCL (io), 22 SDA (io), 23 CREF, 24 VS (power), 25 AGND (power), 26 OUT R (out), 27 OUT L (out), 28 IN3 R (in)

## TDA7439
designator U?
3-Bands Digital-Controlled Audio Processor; Published: 24-Aug-2001; LatestRevisionDate: 17-Jul-2002; LatestRevisionNote: Re-released for DXP Platform.; DatasheetDocument: Apr-1999; PackageDocument: Nov-1999; PackageReference: SDIP30; Publisher: Altium Limited
footprint SDIP30 (DIP; 30 Leads; Row Spacing 10.16 mm; Pitch 1.778 mm)
pins: 1 SDA (io), 2 CREF, 3 VS (power), 4 AGND (power), 5 OUT R (out), 6 OUT L (out), 7 IN4 R (in), 8 IN3 R (in), 9 IN2 R (in), 10 IN1 R (in), 11 IN1 L (in), 12 IN2 L (in), 13 IN3 L (in), 14 IN4 L (in), 15 MUXOUT L (out), 16 IN L (in), 17 MUXOUT R (out), 18 IN R (in), 19 MIN R (in), 20 MOUT R (out), 21 BIN R (in), 22 BOUT R (out), 23 BIN L (in), 24 BOUT L (out), 25 MOUT L (out), 26 MIN L (in), 27 TR L (in), 28 TR R (in), 29 DGND (power), 30 SCL (io)